# Altium schematic symbol library MSP430G2432IPW20.SchLib: 1 symbol
Pins are listed as number, name and electrical type; pins without a type are passive.

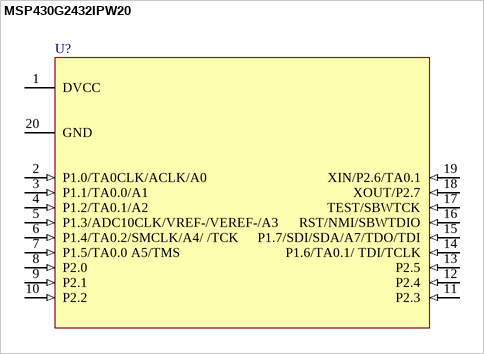
[diagram p0: symbol MSP430G2432IPW20]

## MSP430G2432IPW20
designator U?
ID: MSP430G2432IPW20; PDF: http://www.ti.com/lit/ds/symlink/msp430g2432.pdf; PRICE: 1.95000; BUY_LINK: http://www.digikey.com/product-detail/en/MSP430G2432IPW20/296-33460-5-ND/2597255
footprint TSSOP20
pins: 1 DVCC (power), 2 P1.0/TA0CLK/ACLK/A0 (in), 3 P1.1/TA0.0/A1 (in), 4 P1.2/TA0.1/A2 (in), 5 P1.3/ADC10CLK/VREF-/VEREF-/A3 (in), 6 P1.4/TA0.2/SMCLK/A4/ /TCK (in), 7 P1.5/TA0.0 A5/TMS (in), 8 P2.0 (in), 9 P2.1 (in), 10 P2.2 (in), 11 P2.3 (in), 12 P2.4 (in), 13 P2.5 (in), 14 P1.6/TA0.1/ TDI/TCLK (in), 15 P1.7/SDI/SDA/A7/TDO/TDI (in), 16 RST/NMI/SBWTDIO (in), 17 TEST/SBWTCK (in), 18 XOUT/P2.7 (in), 19 XIN/P2.6/TA0.1 (in), 20 GND (power)